# Altium integrated library Linear Technology Power Management Switching Regulator LT1074-LT8705.IntLib: 2252 symbols (part 131 of 148)
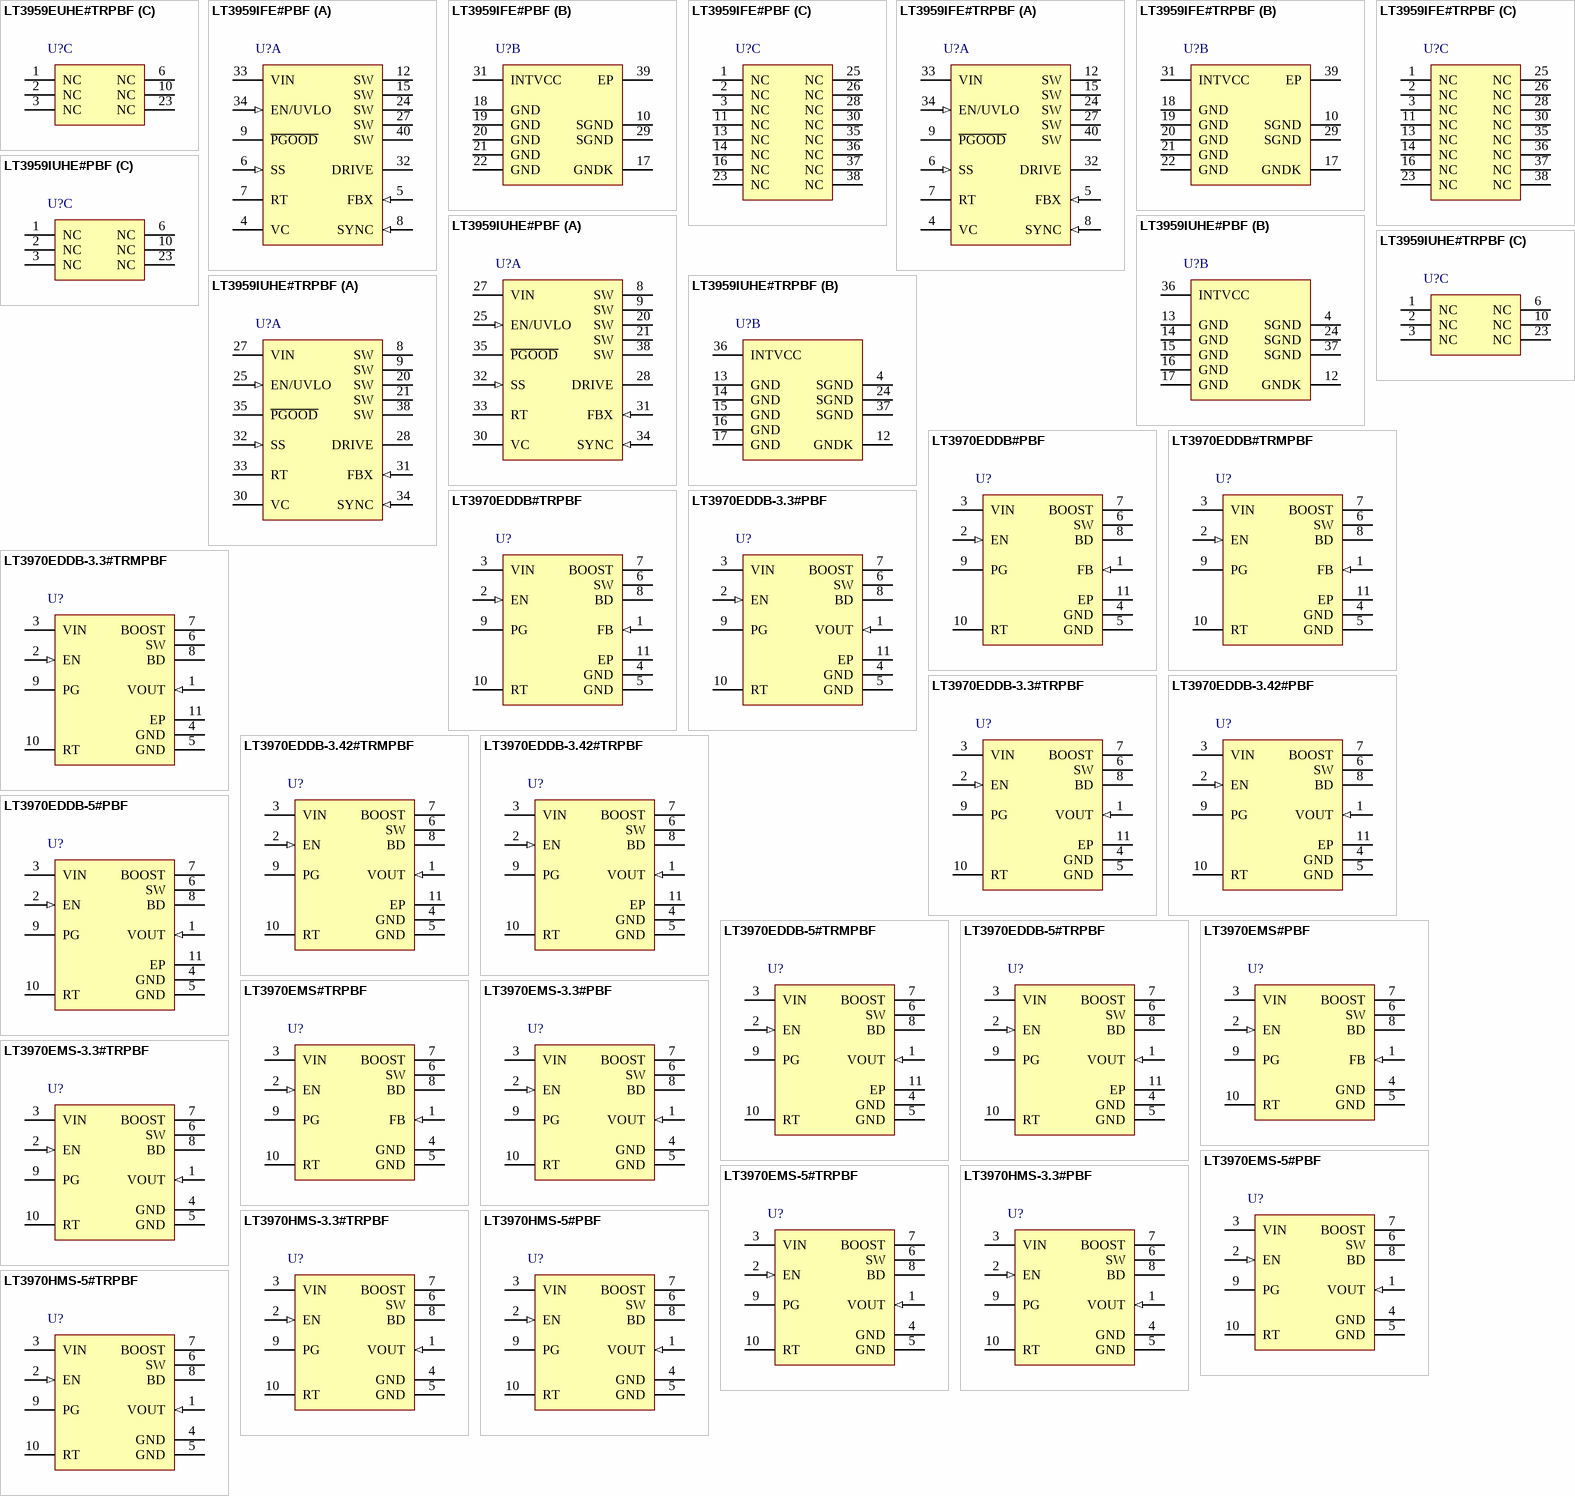
[diagram p201: symbols LT3959EUHE#TRPBF to LT3970HMS-5#TRPBF]

## LT3970HMS-3.3#TRPBF
designator U?
350 mA Step-Down Regulator with 2.5 uA Quiescent Current and Integrated Diodes, 10-pin SOP (MS-10), -40 to 150 degC, Pb-Free, Tape and Reel; Manufacturer: Linear Technology; PartNumber: LT3970HMS-3.3#TRPBF; Frequency Adjust Range: 200kHz - 2.2MHz; Number of Outputs: 1; DatasheetVersion: Rev. B; PackageVersion: Rev. E, 06/2010; PackageReference: MS-10; PackageDescription: 10-Pin Plastic MSOP, Body 3 x 3 mm, Pitch 0.5 mm; Supplier 1: Digi-Key; Supplier Part Number 1: LT3970HMS-3.3#TRPBF-ND; Packing: Tape and Reel; RoHS: TRUE; Mounting Technology: Surface Mount; ComponentLink1Description: Manufacturer URL; ComponentLink1URL: http://www.linear.com/; ComponentLink2Description: Datasheet; ComponentLink2URL: http://cds.linear.com/docs/en/datasheet/3970fb.pdf; ComponentLink3Description: Package Specification; ComponentLink3URL: http://cds.linear.com/docs/en/packaging/05081661_F_MS.pdf
footprint LT-MS-10_N (SOP, 10-Leads, Body 3.1x3.1mm, Pitch 0.5mm, IPC Medium Density)
footprint LT-MS-10_L (SOP, 10-Leads, Body 3.1x3.1mm, Pitch 0.5mm, IPC High Density)
footprint LT-MS-10_M (SOP, 10-Leads, Body 3.1x3.1mm, Pitch 0.5mm, IPC Low Density)
pins: 1 VOUT (in) "The LT3970-3.3, LT3970-3.42 and LT3970-5 regulate the VOUT Pin to 3.3V, 3.42V and 5V respectively. This pin connects to the internal feedback divider that programs the fixed output voltage.", 2 EN (in) "The part is in shutdown when this pin is low and active when this pin is high. The hysteretic threshold voltage is 1V going up and 0.97V going down. Tie to VIN if shutdown feature is not used. The EN threshold is accurate (See Datasheet)", 3 VIN (power) "The VIN pin supplies current to the LT3970’s internal circuitry and to the internal power switch. This pin must be locally bypassed.", 4 GND (power) "Ground. Must be soldered to PCB.", 5 GND (power) "Ground. Must be soldered to PCB.", 6 SW (power) "The SW pin is the output of an internal power switch. Connect this pin to the inductor.", 7 BOOST "This pin is used to provide a drive voltage, higher than the input voltage, to the internal bipolar NPN power switch.", 8 BD (power) "This pin connects to the anode of the boost diode. This pin also supplies current to the LT3970’s internal regulator when BD is above 3.2V.", 9 PG (oc) "The PG pin is the open-drain output of an internal comparator. PG remains low until the FB pin is within 10% of the final regulation voltage. PG is valid when VIN is above 4.2V and EN is high.", 10 RT "A resistor is tied between RT and ground to set the switching frequency."

## LT3970HMS-5#PBF
designator U?
350 mA Step-Down Regulator with 2.5 uA Quiescent Current and Integrated Diodes, 10-pin SOP (MS-10), -40 to 150 degC, Pb-Free; Manufacturer: Linear Technology; PartNumber: LT3970HMS-5#PBF; Frequency Adjust Range: 200kHz - 2.2MHz; Number of Outputs: 1; DatasheetVersion: Rev. B; PackageVersion: Rev. E, 06/2010; PackageReference: MS-10; PackageDescription: 10-Pin Plastic MSOP, Body 3 x 3 mm, Pitch 0.5 mm; Supplier 1: Digi-Key; Supplier Part Number 1: LT3970HMS-5#PBF-ND; RoHS: TRUE; Mounting Technology: Surface Mount; ComponentLink1Description: Manufacturer URL; ComponentLink1URL: http://www.linear.com/; ComponentLink2Description: Datasheet; ComponentLink2URL: http://cds.linear.com/docs/en/datasheet/3970fb.pdf; ComponentLink3Description: Package Specification; ComponentLink3URL: http://cds.linear.com/docs/en/packaging/05081661_F_MS.pdf
footprint LT-MS-10_N (SOP, 10-Leads, Body 3.1x3.1mm, Pitch 0.5mm, IPC Medium Density)
footprint LT-MS-10_L (SOP, 10-Leads, Body 3.1x3.1mm, Pitch 0.5mm, IPC High Density)
footprint LT-MS-10_M (SOP, 10-Leads, Body 3.1x3.1mm, Pitch 0.5mm, IPC Low Density)
pins: 1 VOUT (in) "The LT3970-3.3, LT3970-3.42 and LT3970-5 regulate the VOUT Pin to 3.3V, 3.42V and 5V respectively. This pin connects to the internal feedback divider that programs the fixed output voltage.", 2 EN (in) "The part is in shutdown when this pin is low and active when this pin is high. The hysteretic threshold voltage is 1V going up and 0.97V going down. Tie to VIN if shutdown feature is not used. The EN threshold is accurate (See Datasheet)", 3 VIN (power) "The VIN pin supplies current to the LT3970’s internal circuitry and to the internal power switch. This pin must be locally bypassed.", 4 GND (power) "Ground. Must be soldered to PCB.", 5 GND (power) "Ground. Must be soldered to PCB.", 6 SW (power) "The SW pin is the output of an internal power switch. Connect this pin to the inductor.", 7 BOOST "This pin is used to provide a drive voltage, higher than the input voltage, to the internal bipolar NPN power switch.", 8 BD (power) "This pin connects to the anode of the boost diode. This pin also supplies current to the LT3970’s internal regulator when BD is above 3.2V.", 9 PG (oc) "The PG pin is the open-drain output of an internal comparator. PG remains low until the FB pin is within 10% of the final regulation voltage. PG is valid when VIN is above 4.2V and EN is high.", 10 RT "A resistor is tied between RT and ground to set the switching frequency."

## LT3970HMS-5#TRPBF
designator U?
350 mA Step-Down Regulator with 2.5 uA Quiescent Current and Integrated Diodes, 10-pin SOP (MS-10), -40 to 150 degC, Pb-Free, Tape and Reel; Manufacturer: Linear Technology; PartNumber: LT3970HMS-5#TRPBF; Frequency Adjust Range: 200kHz - 2.2MHz; Number of Outputs: 1; DatasheetVersion: Rev. B; PackageVersion: Rev. E, 06/2010; PackageReference: MS-10; PackageDescription: 10-Pin Plastic MSOP, Body 3 x 3 mm, Pitch 0.5 mm; Supplier 1: Digi-Key; Supplier Part Number 1: LT3970HMS-5#TRPBF-ND; Packing: Tape and Reel; RoHS: TRUE; Mounting Technology: Surface Mount; ComponentLink1Description: Manufacturer URL; ComponentLink1URL: http://www.linear.com/; ComponentLink2Description: Datasheet; ComponentLink2URL: http://cds.linear.com/docs/en/datasheet/3970fb.pdf; ComponentLink3Description: Package Specification; ComponentLink3URL: http://cds.linear.com/docs/en/packaging/05081661_F_MS.pdf
footprint LT-MS-10_N (SOP, 10-Leads, Body 3.1x3.1mm, Pitch 0.5mm, IPC Medium Density)
footprint LT-MS-10_L (SOP, 10-Leads, Body 3.1x3.1mm, Pitch 0.5mm, IPC High Density)
footprint LT-MS-10_M (SOP, 10-Leads, Body 3.1x3.1mm, Pitch 0.5mm, IPC Low Density)
pins: 1 VOUT (in) "The LT3970-3.3, LT3970-3.42 and LT3970-5 regulate the VOUT Pin to 3.3V, 3.42V and 5V respectively. This pin connects to the internal feedback divider that programs the fixed output voltage.", 2 EN (in) "The part is in shutdown when this pin is low and active when this pin is high. The hysteretic threshold voltage is 1V going up and 0.97V going down. Tie to VIN if shutdown feature is not used. The EN threshold is accurate (See Datasheet)", 3 VIN (power) "The VIN pin supplies current to the LT3970’s internal circuitry and to the internal power switch. This pin must be locally bypassed.", 4 GND (power) "Ground. Must be soldered to PCB.", 5 GND (power) "Ground. Must be soldered to PCB.", 6 SW (power) "The SW pin is the output of an internal power switch. Connect this pin to the inductor.", 7 BOOST "This pin is used to provide a drive voltage, higher than the input voltage, to the internal bipolar NPN power switch.", 8 BD (power) "This pin connects to the anode of the boost diode. This pin also supplies current to the LT3970’s internal regulator when BD is above 3.2V.", 9 PG (oc) "The PG pin is the open-drain output of an internal comparator. PG remains low until the FB pin is within 10% of the final regulation voltage. PG is valid when VIN is above 4.2V and EN is high.", 10 RT "A resistor is tied between RT and ground to set the switching frequency."

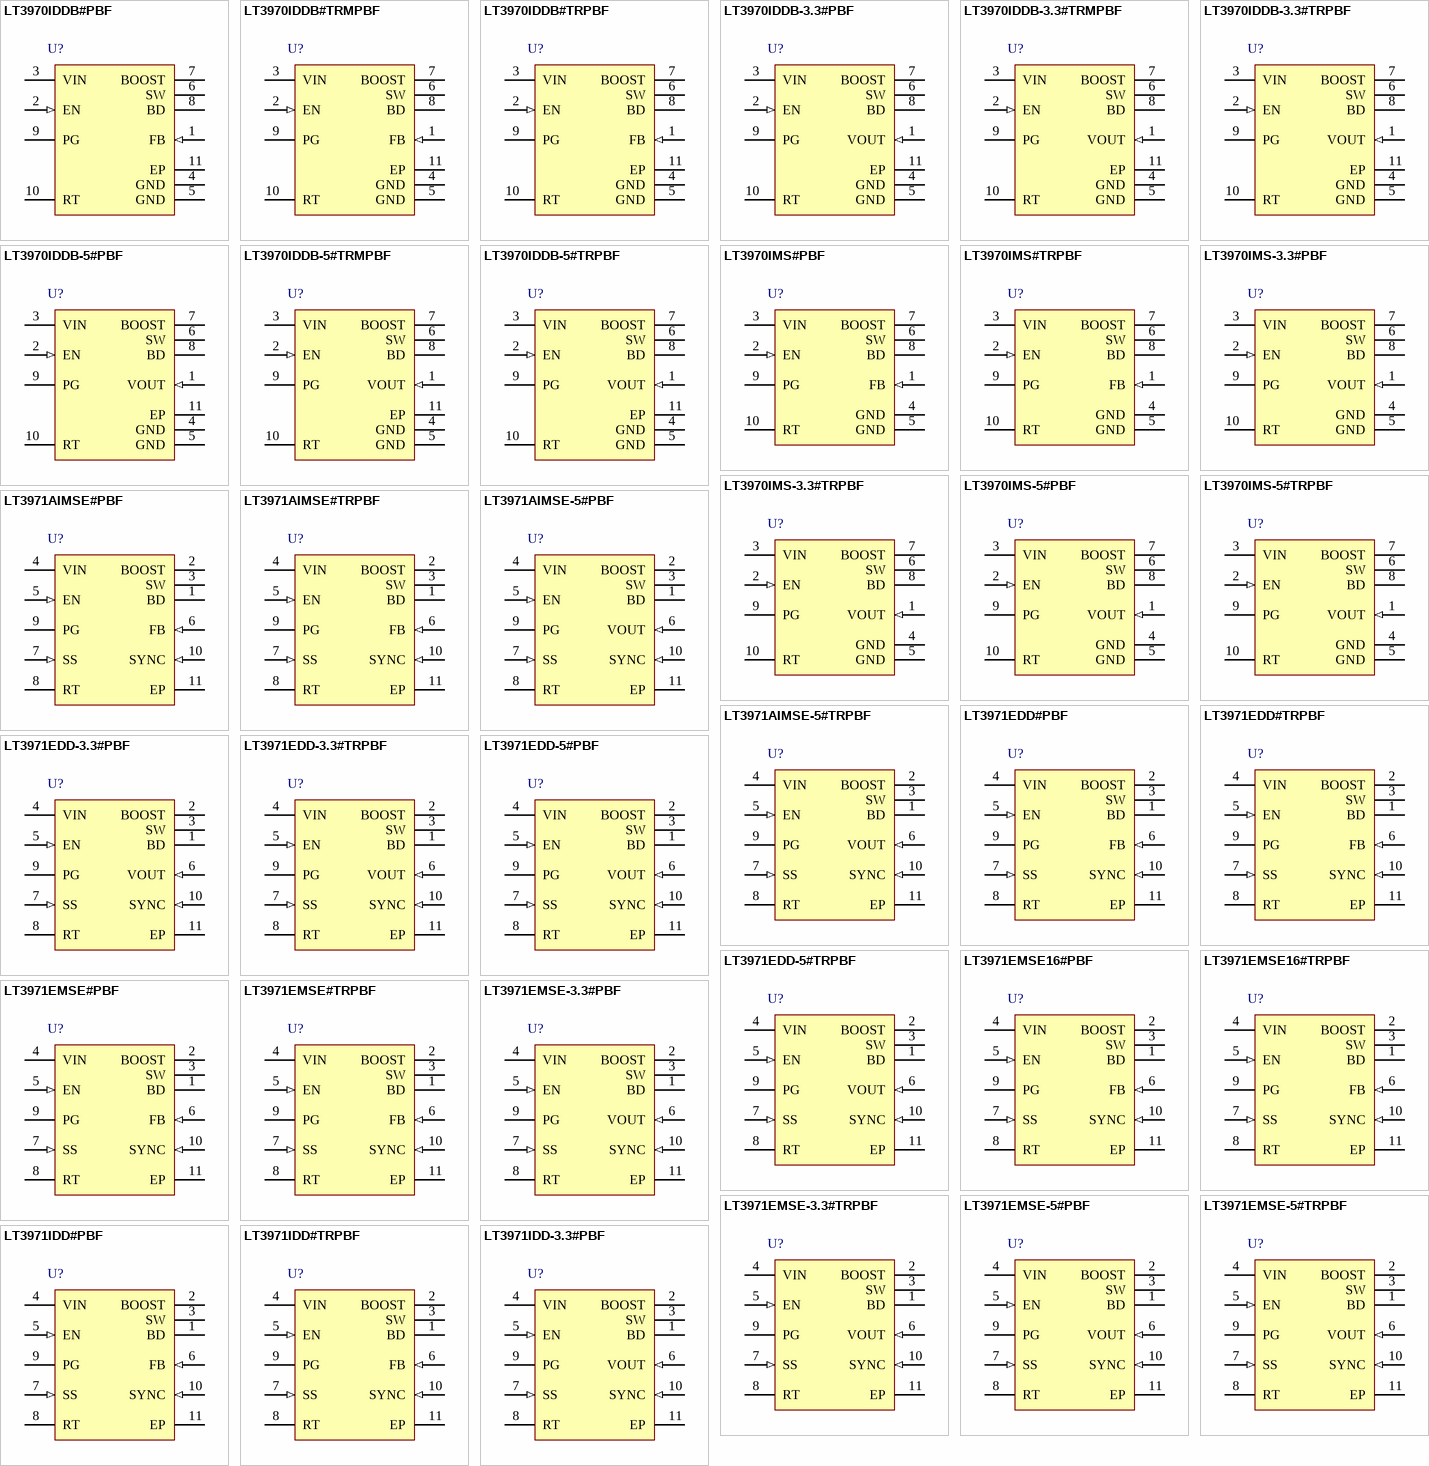
[diagram p63: symbols LT3970IDDB#PBF to LT3971IDD-3.3#PBF]

## LT3970IDDB#PBF
designator U?
350 mA Step-Down Regulator with 2.5 uA Quiescent Current and Integrated Diodes, 10-pin SON (DDB-10), -40 to 125 degC, Pb-Free; Manufacturer: Linear Technology; PartNumber: LT3970IDDB#PBF; Frequency Adjust Range: 200kHz - 2.2MHz; Number of Outputs: 1; DatasheetVersion: Rev. B; PackageVersion: Rev. Ø, 06/2010; PackageReference: DDB10; PackageDescription: 10-Pin Plastic DFN, Body 3 x 2 mm, Pitch 0.5 mm; Supplier 1: Newark; Supplier Part Number 1: 78T4066; RoHS: TRUE; Mounting Technology: Surface Mount; Code_JEDEC: MO-229; ComponentLink1Description: Manufacturer URL; ComponentLink1URL: http://www.linear.com/; ComponentLink2Description: Datasheet; ComponentLink2URL: http://cds.linear.com/docs/en/datasheet/3970fb.pdf; ComponentLink3Description: Package Specification; ComponentLink3URL: http://cds.linear.com/docs/en/packaging/DFN_10_05-08-1722.pdf
footprint LT-DDB-10_V (SON, 10-Leads, Body 3x2mm, Pitch 0.5mm, Thermal Pad 2.39x0.64mm)
pins: 1 FB (in) "The LT3970 Regulates the FB Pin to 1.21V. Connect the feedback resistor divider tap to this pin.", 2 EN (in) "The part is in shutdown when this pin is low and active when this pin is high. The hysteretic threshold voltage is 1V going up and 0.97V going down. Tie to VIN if shutdown feature is not used. The EN threshold is accurate (See Datasheet)", 3 VIN (power) "The VIN pin supplies current to the LT3970’s internal circuitry and to the internal power switch. This pin must be locally bypassed.", 4 GND (power) "Ground. Must be soldered to PCB.", 5 GND (power) "Ground. Must be soldered to PCB.", 6 SW (power) "The SW pin is the output of an internal power switch. Connect this pin to the inductor", 7 BOOST "This pin is used to provide a drive voltage, higher than the input voltage, to the internal bipolar NPN power switch.", 8 BD (power) "This pin connects to the anode of the boost diode. This pin also supplies current to the LT3970’s internal regulator when BD is above 3.2V.", 9 PG (oc) "The PG pin is the open-drain output of an internal comparator. PG remains low until the FB pin is within 10% of the final regulation voltage. PG is valid when VIN is above 4.2V and EN is high.", 10 RT "A resistor is tied between RT and ground to set the switching frequency.", 11 EP (power) "Ground. Must be soldered to PCB."

## LT3970IDDB#TRMPBF
designator U?
350 mA Step-Down Regulator with 2.5 uA Quiescent Current and Integrated Diodes, 10-pin SON (DDB-10), -40 to 125 degC, Pb-Free, Mini Tape and Reel; Manufacturer: Linear Technology; PartNumber: LT3970IDDB#TRMPBF; Frequency Adjust Range: 200kHz - 2.2MHz; Number of Outputs: 1; DatasheetVersion: Rev. B; PackageVersion: Rev. Ø, 06/2010; PackageReference: DDB10; PackageDescription: 10-Pin Plastic DFN, Body 3 x 2 mm, Pitch 0.5 mm; Supplier 1: Digi-Key; Supplier Part Number 1: LT3970IDDB#TRMPBF-ND; Supplier 2: Newark; Supplier Part Number 2: 13T8573; Packing: Mini Tape and Reel; RoHS: TRUE; Mounting Technology: Surface Mount; Code_JEDEC: MO-229; ComponentLink1Description: Manufacturer URL; ComponentLink1URL: http://www.linear.com/; ComponentLink2Description: Datasheet; ComponentLink2URL: http://cds.linear.com/docs/en/datasheet/3970fb.pdf; ComponentLink3Description: Package Specification; ComponentLink3URL: http://cds.linear.com/docs/en/packaging/DFN_10_05-08-1722.pdf
footprint LT-DDB-10_V (SON, 10-Leads, Body 3x2mm, Pitch 0.5mm, Thermal Pad 2.39x0.64mm)
pins: 1 FB (in) "The LT3970 Regulates the FB Pin to 1.21V. Connect the feedback resistor divider tap to this pin.", 2 EN (in) "The part is in shutdown when this pin is low and active when this pin is high. The hysteretic threshold voltage is 1V going up and 0.97V going down. Tie to VIN if shutdown feature is not used. The EN threshold is accurate (See Datasheet)", 3 VIN (power) "The VIN pin supplies current to the LT3970’s internal circuitry and to the internal power switch. This pin must be locally bypassed.", 4 GND (power) "Ground. Must be soldered to PCB.", 5 GND (power) "Ground. Must be soldered to PCB.", 6 SW (power) "The SW pin is the output of an internal power switch. Connect this pin to the inductor", 7 BOOST "This pin is used to provide a drive voltage, higher than the input voltage, to the internal bipolar NPN power switch.", 8 BD (power) "This pin connects to the anode of the boost diode. This pin also supplies current to the LT3970’s internal regulator when BD is above 3.2V.", 9 PG (oc) "The PG pin is the open-drain output of an internal comparator. PG remains low until the FB pin is within 10% of the final regulation voltage. PG is valid when VIN is above 4.2V and EN is high.", 10 RT "A resistor is tied between RT and ground to set the switching frequency.", 11 EP (power) "Ground. Must be soldered to PCB."

## LT3970IDDB#TRPBF
designator U?
350 mA Step-Down Regulator with 2.5 uA Quiescent Current and Integrated Diodes, 10-pin SON (DDB-10), -40 to 125 degC, Pb-Free, Tape and Reel; Manufacturer: Linear Technology; PartNumber: LT3970IDDB#TRPBF; Frequency Adjust Range: 200kHz - 2.2MHz; Number of Outputs: 1; DatasheetVersion: Rev. B; PackageVersion: Rev. Ø, 06/2010; PackageReference: DDB10; PackageDescription: 10-Pin Plastic DFN, Body 3 x 2 mm, Pitch 0.5 mm; Supplier 1: Digi-Key; Supplier Part Number 1: LT3970IDDB#TRPBF-ND; Packing: Tape and Reel; RoHS: TRUE; Mounting Technology: Surface Mount; Code_JEDEC: MO-229; ComponentLink1Description: Manufacturer URL; ComponentLink1URL: http://www.linear.com/; ComponentLink2Description: Datasheet; ComponentLink2URL: http://cds.linear.com/docs/en/datasheet/3970fb.pdf; ComponentLink3Description: Package Specification; ComponentLink3URL: http://cds.linear.com/docs/en/packaging/DFN_10_05-08-1722.pdf
footprint LT-DDB-10_V (SON, 10-Leads, Body 3x2mm, Pitch 0.5mm, Thermal Pad 2.39x0.64mm)
pins: 1 FB (in) "The LT3970 Regulates the FB Pin to 1.21V. Connect the feedback resistor divider tap to this pin.", 2 EN (in) "The part is in shutdown when this pin is low and active when this pin is high. The hysteretic threshold voltage is 1V going up and 0.97V going down. Tie to VIN if shutdown feature is not used. The EN threshold is accurate (See Datasheet)", 3 VIN (power) "The VIN pin supplies current to the LT3970’s internal circuitry and to the internal power switch. This pin must be locally bypassed.", 4 GND (power) "Ground. Must be soldered to PCB.", 5 GND (power) "Ground. Must be soldered to PCB.", 6 SW (power) "The SW pin is the output of an internal power switch. Connect this pin to the inductor", 7 BOOST "This pin is used to provide a drive voltage, higher than the input voltage, to the internal bipolar NPN power switch.", 8 BD (power) "This pin connects to the anode of the boost diode. This pin also supplies current to the LT3970’s internal regulator when BD is above 3.2V.", 9 PG (oc) "The PG pin is the open-drain output of an internal comparator. PG remains low until the FB pin is within 10% of the final regulation voltage. PG is valid when VIN is above 4.2V and EN is high.", 10 RT "A resistor is tied between RT and ground to set the switching frequency.", 11 EP (power) "Ground. Must be soldered to PCB."

## LT3970IDDB-3.3#PBF
designator U?
350 mA Step-Down Regulator with 2.5 uA Quiescent Current and Integrated Diodes, 10-pin SON (DDB-10), -40 to 125 degC, Pb-Free; Manufacturer: Linear Technology; PartNumber: LT3970IDDB-3.3#PBF; Frequency Adjust Range: 200kHz - 2.2MHz; Number of Outputs: 1; DatasheetVersion: Rev. B; PackageVersion: Rev. Ø, 06/2010; PackageReference: DDB10; PackageDescription: 10-Pin Plastic DFN, Body 3 x 2 mm, Pitch 0.5 mm; Supplier 1: Newark; Supplier Part Number 1: 78T4064; RoHS: TRUE; Mounting Technology: Surface Mount; Code_JEDEC: MO-229; ComponentLink1Description: Manufacturer URL; ComponentLink1URL: http://www.linear.com/; ComponentLink2Description: Datasheet; ComponentLink2URL: http://cds.linear.com/docs/en/datasheet/3970fb.pdf; ComponentLink3Description: Package Specification; ComponentLink3URL: http://cds.linear.com/docs/en/packaging/DFN_10_05-08-1722.pdf
footprint LT-DDB-10_V (SON, 10-Leads, Body 3x2mm, Pitch 0.5mm, Thermal Pad 2.39x0.64mm)
pins: 1 VOUT (in) "The LT3970-3.3, LT3970-3.42 and LT3970-5 regulate the VOUT Pin to 3.3V, 3.42V and 5V respectively. This pin connects to the internal feedback divider that programs the fixed output voltage.", 2 EN (in) "The part is in shutdown when this pin is low and active when this pin is high. The hysteretic threshold voltage is 1V going up and 0.97V going down. Tie to VIN if shutdown feature is not used. The EN threshold is accurate (See Datasheet)", 3 VIN (power) "The VIN pin supplies current to the LT3970’s internal circuitry and to the internal power switch. This pin must be locally bypassed.", 4 GND (power) "Ground. Must be soldered to PCB.", 5 GND (power) "Ground. Must be soldered to PCB.", 6 SW (power) "The SW pin is the output of an internal power switch. Connect this pin to the inductor.", 7 BOOST "This pin is used to provide a drive voltage, higher than the input voltage, to the internal bipolar NPN power switch.", 8 BD (power) "This pin connects to the anode of the boost diode. This pin also supplies current to the LT3970’s internal regulator when BD is above 3.2V.", 9 PG (oc) "The PG pin is the open-drain output of an internal comparator. PG remains low until the FB pin is within 10% of the final regulation voltage. PG is valid when VIN is above 4.2V and EN is high.", 10 RT "A resistor is tied between RT and ground to set the switching frequency.", 11 EP (power) "Ground. Must be soldered to PCB."

## LT3970IDDB-3.3#TRMPBF
designator U?
350 mA Step-Down Regulator with 2.5 uA Quiescent Current and Integrated Diodes, 10-pin SON (DDB-10), -40 to 125 degC, Pb-Free, Mini Tape and Reel; Manufacturer: Linear Technology; PartNumber: LT3970IDDB-3.3#TRMPBF; Frequency Adjust Range: 200kHz - 2.2MHz; Number of Outputs: 1; DatasheetVersion: Rev. B; PackageVersion: Rev. Ø, 06/2010; PackageReference: DDB10; PackageDescription: 10-Pin Plastic DFN, Body 3 x 2 mm, Pitch 0.5 mm; Supplier 1: Digi-Key; Supplier Part Number 1: LT3970IDDB-3.3#TRMPBF-ND; Packing: Mini Tape and Reel; RoHS: TRUE; Mounting Technology: Surface Mount; Code_JEDEC: MO-229; ComponentLink1Description: Manufacturer URL; ComponentLink1URL: http://www.linear.com/; ComponentLink2Description: Datasheet; ComponentLink2URL: http://cds.linear.com/docs/en/datasheet/3970fb.pdf; ComponentLink3Description: Package Specification; ComponentLink3URL: http://cds.linear.com/docs/en/packaging/DFN_10_05-08-1722.pdf
footprint LT-DDB-10_V (SON, 10-Leads, Body 3x2mm, Pitch 0.5mm, Thermal Pad 2.39x0.64mm)
pins: 1 VOUT (in) "The LT3970-3.3, LT3970-3.42 and LT3970-5 regulate the VOUT Pin to 3.3V, 3.42V and 5V respectively. This pin connects to the internal feedback divider that programs the fixed output voltage.", 2 EN (in) "The part is in shutdown when this pin is low and active when this pin is high. The hysteretic threshold voltage is 1V going up and 0.97V going down. Tie to VIN if shutdown feature is not used. The EN threshold is accurate (See Datasheet)", 3 VIN (power) "The VIN pin supplies current to the LT3970’s internal circuitry and to the internal power switch. This pin must be locally bypassed.", 4 GND (power) "Ground. Must be soldered to PCB.", 5 GND (power) "Ground. Must be soldered to PCB.", 6 SW (power) "The SW pin is the output of an internal power switch. Connect this pin to the inductor.", 7 BOOST "This pin is used to provide a drive voltage, higher than the input voltage, to the internal bipolar NPN power switch.", 8 BD (power) "This pin connects to the anode of the boost diode. This pin also supplies current to the LT3970’s internal regulator when BD is above 3.2V.", 9 PG (oc) "The PG pin is the open-drain output of an internal comparator. PG remains low until the FB pin is within 10% of the final regulation voltage. PG is valid when VIN is above 4.2V and EN is high.", 10 RT "A resistor is tied between RT and ground to set the switching frequency.", 11 EP (power) "Ground. Must be soldered to PCB."

## LT3970IDDB-3.3#TRPBF
designator U?
350 mA Step-Down Regulator with 2.5 uA Quiescent Current and Integrated Diodes, 10-pin SON (DDB-10), -40 to 125 degC, Pb-Free, Tape and Reel; Manufacturer: Linear Technology; PartNumber: LT3970IDDB-3.3#TRPBF; Frequency Adjust Range: 200kHz - 2.2MHz; Number of Outputs: 1; DatasheetVersion: Rev. B; PackageVersion: Rev. Ø, 06/2010; PackageReference: DDB10; PackageDescription: 10-Pin Plastic DFN, Body 3 x 2 mm, Pitch 0.5 mm; Supplier 1: Digi-Key; Supplier Part Number 1: LT3970IDDB-3.3#TRPBF-ND; Packing: Tape and Reel; RoHS: TRUE; Mounting Technology: Surface Mount; Code_JEDEC: MO-229; ComponentLink1Description: Manufacturer URL; ComponentLink1URL: http://www.linear.com/; ComponentLink2Description: Datasheet; ComponentLink2URL: http://cds.linear.com/docs/en/datasheet/3970fb.pdf; ComponentLink3Description: Package Specification; ComponentLink3URL: http://cds.linear.com/docs/en/packaging/DFN_10_05-08-1722.pdf
footprint LT-DDB-10_V (SON, 10-Leads, Body 3x2mm, Pitch 0.5mm, Thermal Pad 2.39x0.64mm)
pins: 1 VOUT (in) "The LT3970-3.3, LT3970-3.42 and LT3970-5 regulate the VOUT Pin to 3.3V, 3.42V and 5V respectively. This pin connects to the internal feedback divider that programs the fixed output voltage.", 2 EN (in) "The part is in shutdown when this pin is low and active when this pin is high. The hysteretic threshold voltage is 1V going up and 0.97V going down. Tie to VIN if shutdown feature is not used. The EN threshold is accurate (See Datasheet)", 3 VIN (power) "The VIN pin supplies current to the LT3970’s internal circuitry and to the internal power switch. This pin must be locally bypassed.", 4 GND (power) "Ground. Must be soldered to PCB.", 5 GND (power) "Ground. Must be soldered to PCB.", 6 SW (power) "The SW pin is the output of an internal power switch. Connect this pin to the inductor.", 7 BOOST "This pin is used to provide a drive voltage, higher than the input voltage, to the internal bipolar NPN power switch.", 8 BD (power) "This pin connects to the anode of the boost diode. This pin also supplies current to the LT3970’s internal regulator when BD is above 3.2V.", 9 PG (oc) "The PG pin is the open-drain output of an internal comparator. PG remains low until the FB pin is within 10% of the final regulation voltage. PG is valid when VIN is above 4.2V and EN is high.", 10 RT "A resistor is tied between RT and ground to set the switching frequency.", 11 EP (power) "Ground. Must be soldered to PCB."

## LT3970IDDB-5#PBF
designator U?
350 mA Step-Down Regulator with 2.5 uA Quiescent Current and Integrated Diodes, 10-pin SON (DDB-10), -40 to 125 degC, Pb-Free; Manufacturer: Linear Technology; PartNumber: LT3970IDDB-5#PBF; Frequency Adjust Range: 200kHz - 2.2MHz; Number of Outputs: 1; DatasheetVersion: Rev. B; PackageVersion: Rev. Ø, 06/2010; PackageReference: DDB10; PackageDescription: 10-Pin Plastic DFN, Body 3 x 2 mm, Pitch 0.5 mm; Supplier 1: Newark; Supplier Part Number 1: 78T4065; RoHS: TRUE; Mounting Technology: Surface Mount; Code_JEDEC: MO-229; ComponentLink1Description: Manufacturer URL; ComponentLink1URL: http://www.linear.com/; ComponentLink2Description: Datasheet; ComponentLink2URL: http://cds.linear.com/docs/en/datasheet/3970fb.pdf; ComponentLink3Description: Package Specification; ComponentLink3URL: http://cds.linear.com/docs/en/packaging/DFN_10_05-08-1722.pdf
footprint LT-DDB-10_V (SON, 10-Leads, Body 3x2mm, Pitch 0.5mm, Thermal Pad 2.39x0.64mm)
pins: 1 VOUT (in) "The LT3970-3.3, LT3970-3.42 and LT3970-5 regulate the VOUT Pin to 3.3V, 3.42V and 5V respectively. This pin connects to the internal feedback divider that programs the fixed output voltage.", 2 EN (in) "The part is in shutdown when this pin is low and active when this pin is high. The hysteretic threshold voltage is 1V going up and 0.97V going down. Tie to VIN if shutdown feature is not used. The EN threshold is accurate (See Datasheet)", 3 VIN (power) "The VIN pin supplies current to the LT3970’s internal circuitry and to the internal power switch. This pin must be locally bypassed.", 4 GND (power) "Ground. Must be soldered to PCB.", 5 GND (power) "Ground. Must be soldered to PCB.", 6 SW (power) "The SW pin is the output of an internal power switch. Connect this pin to the inductor.", 7 BOOST "This pin is used to provide a drive voltage, higher than the input voltage, to the internal bipolar NPN power switch.", 8 BD (power) "This pin connects to the anode of the boost diode. This pin also supplies current to the LT3970’s internal regulator when BD is above 3.2V.", 9 PG (oc) "The PG pin is the open-drain output of an internal comparator. PG remains low until the FB pin is within 10% of the final regulation voltage. PG is valid when VIN is above 4.2V and EN is high.", 10 RT "A resistor is tied between RT and ground to set the switching frequency.", 11 EP (power) "Ground. Must be soldered to PCB."

## LT3970IDDB-5#TRMPBF
designator U?
350 mA Step-Down Regulator with 2.5 uA Quiescent Current and Integrated Diodes, 10-pin SON (DDB-10), -40 to 125 degC, Pb-Free, Mini Tape and Reel; Manufacturer: Linear Technology; PartNumber: LT3970IDDB-5#TRMPBF; Frequency Adjust Range: 200kHz - 2.2MHz; Number of Outputs: 1; DatasheetVersion: Rev. B; PackageVersion: Rev. Ø, 06/2010; PackageReference: DDB10; PackageDescription: 10-Pin Plastic DFN, Body 3 x 2 mm, Pitch 0.5 mm; Supplier 1: Digi-Key; Supplier Part Number 1: LT3970IDDB-5#TRMPBF-ND; Packing: Mini Tape and Reel; RoHS: TRUE; Mounting Technology: Surface Mount; Code_JEDEC: MO-229; ComponentLink1Description: Manufacturer URL; ComponentLink1URL: http://www.linear.com/; ComponentLink2Description: Datasheet; ComponentLink2URL: http://cds.linear.com/docs/en/datasheet/3970fb.pdf; ComponentLink3Description: Package Specification; ComponentLink3URL: http://cds.linear.com/docs/en/packaging/DFN_10_05-08-1722.pdf
footprint LT-DDB-10_V (SON, 10-Leads, Body 3x2mm, Pitch 0.5mm, Thermal Pad 2.39x0.64mm)
pins: 1 VOUT (in) "The LT3970-3.3, LT3970-3.42 and LT3970-5 regulate the VOUT Pin to 3.3V, 3.42V and 5V respectively. This pin connects to the internal feedback divider that programs the fixed output voltage.", 2 EN (in) "The part is in shutdown when this pin is low and active when this pin is high. The hysteretic threshold voltage is 1V going up and 0.97V going down. Tie to VIN if shutdown feature is not used. The EN threshold is accurate (See Datasheet)", 3 VIN (power) "The VIN pin supplies current to the LT3970’s internal circuitry and to the internal power switch. This pin must be locally bypassed.", 4 GND (power) "Ground. Must be soldered to PCB.", 5 GND (power) "Ground. Must be soldered to PCB.", 6 SW (power) "The SW pin is the output of an internal power switch. Connect this pin to the inductor.", 7 BOOST "This pin is used to provide a drive voltage, higher than the input voltage, to the internal bipolar NPN power switch.", 8 BD (power) "This pin connects to the anode of the boost diode. This pin also supplies current to the LT3970’s internal regulator when BD is above 3.2V.", 9 PG (oc) "The PG pin is the open-drain output of an internal comparator. PG remains low until the FB pin is within 10% of the final regulation voltage. PG is valid when VIN is above 4.2V and EN is high.", 10 RT "A resistor is tied between RT and ground to set the switching frequency.", 11 EP (power) "Ground. Must be soldered to PCB."

## LT3970IDDB-5#TRPBF
designator U?
350 mA Step-Down Regulator with 2.5 uA Quiescent Current and Integrated Diodes, 10-pin SON (DDB-10), -40 to 125 degC, Pb-Free, Tape and Reel; Manufacturer: Linear Technology; PartNumber: LT3970IDDB-5#TRPBF; Frequency Adjust Range: 200kHz - 2.2MHz; Number of Outputs: 1; DatasheetVersion: Rev. B; PackageVersion: Rev. Ø, 06/2010; PackageReference: DDB10; PackageDescription: 10-Pin Plastic DFN, Body 3 x 2 mm, Pitch 0.5 mm; Supplier 1: Digi-Key; Supplier Part Number 1: LT3970IDDB-5#TRPBF-ND; Packing: Tape and Reel; RoHS: TRUE; Mounting Technology: Surface Mount; Code_JEDEC: MO-229; ComponentLink1Description: Manufacturer URL; ComponentLink1URL: http://www.linear.com/; ComponentLink2Description: Datasheet; ComponentLink2URL: http://cds.linear.com/docs/en/datasheet/3970fb.pdf; ComponentLink3Description: Package Specification; ComponentLink3URL: http://cds.linear.com/docs/en/packaging/DFN_10_05-08-1722.pdf
footprint LT-DDB-10_V (SON, 10-Leads, Body 3x2mm, Pitch 0.5mm, Thermal Pad 2.39x0.64mm)
pins: 1 VOUT (in) "The LT3970-3.3, LT3970-3.42 and LT3970-5 regulate the VOUT Pin to 3.3V, 3.42V and 5V respectively. This pin connects to the internal feedback divider that programs the fixed output voltage.", 2 EN (in) "The part is in shutdown when this pin is low and active when this pin is high. The hysteretic threshold voltage is 1V going up and 0.97V going down. Tie to VIN if shutdown feature is not used. The EN threshold is accurate (See Datasheet)", 3 VIN (power) "The VIN pin supplies current to the LT3970’s internal circuitry and to the internal power switch. This pin must be locally bypassed.", 4 GND (power) "Ground. Must be soldered to PCB.", 5 GND (power) "Ground. Must be soldered to PCB.", 6 SW (power) "The SW pin is the output of an internal power switch. Connect this pin to the inductor.", 7 BOOST "This pin is used to provide a drive voltage, higher than the input voltage, to the internal bipolar NPN power switch.", 8 BD (power) "This pin connects to the anode of the boost diode. This pin also supplies current to the LT3970’s internal regulator when BD is above 3.2V.", 9 PG (oc) "The PG pin is the open-drain output of an internal comparator. PG remains low until the FB pin is within 10% of the final regulation voltage. PG is valid when VIN is above 4.2V and EN is high.", 10 RT "A resistor is tied between RT and ground to set the switching frequency.", 11 EP (power) "Ground. Must be soldered to PCB."

## LT3970IMS#PBF
designator U?
350 mA Step-Down Regulator with 2.5 uA Quiescent Current and Integrated Diodes, 10-pin SOP (MS-10), -40 to 125 degC, Pb-Free; Manufacturer: Linear Technology; PartNumber: LT3970IMS#PBF; Frequency Adjust Range: 200kHz - 2.2MHz; Number of Outputs: 1; DatasheetVersion: Rev. B; PackageVersion: Rev. E, 06/2010; PackageReference: MS-10; PackageDescription: 10-Pin Plastic MSOP, Body 3 x 3 mm, Pitch 0.5 mm; Supplier 1: Digi-Key; Supplier Part Number 1: LT3970IMS#PBF-ND; Supplier 2: Newark; Supplier Part Number 2: 13T8579; RoHS: TRUE; Mounting Technology: Surface Mount; ComponentLink1Description: Manufacturer URL; ComponentLink1URL: http://www.linear.com/; ComponentLink2Description: Datasheet; ComponentLink2URL: http://cds.linear.com/docs/en/datasheet/3970fb.pdf; ComponentLink3Description: Package Specification; ComponentLink3URL: http://cds.linear.com/docs/en/packaging/05081661_F_MS.pdf
footprint LT-MS-10_N (SOP, 10-Leads, Body 3.1x3.1mm, Pitch 0.5mm, IPC Medium Density)
footprint LT-MS-10_L (SOP, 10-Leads, Body 3.1x3.1mm, Pitch 0.5mm, IPC High Density)
footprint LT-MS-10_M (SOP, 10-Leads, Body 3.1x3.1mm, Pitch 0.5mm, IPC Low Density)
pins: 1 FB (in) "The LT3970 Regulates the FB Pin to 1.21V. Connect the feedback resistor divider tap to this pin.", 2 EN (in) "The part is in shutdown when this pin is low and active when this pin is high. The hysteretic threshold voltage is 1V going up and 0.97V going down. Tie to VIN if shutdown feature is not used. The EN threshold is accurate (See Datasheet)", 3 VIN (power) "The VIN pin supplies current to the LT3970’s internal circuitry and to the internal power switch. This pin must be locally bypassed.", 4 GND (power) "Ground. Must be soldered to PCB.", 5 GND (power) "Ground. Must be soldered to PCB.", 6 SW (power) "The SW pin is the output of an internal power switch. Connect this pin to the inductor", 7 BOOST "This pin is used to provide a drive voltage, higher than the input voltage, to the internal bipolar NPN power switch.", 8 BD (power) "This pin connects to the anode of the boost diode. This pin also supplies current to the LT3970’s internal regulator when BD is above 3.2V.", 9 PG (oc) "The PG pin is the open-drain output of an internal comparator. PG remains low until the FB pin is within 10% of the final regulation voltage. PG is valid when VIN is above 4.2V and EN is high.", 10 RT "A resistor is tied between RT and ground to set the switching frequency."

## LT3970IMS#TRPBF
designator U?
350 mA Step-Down Regulator with 2.5 uA Quiescent Current and Integrated Diodes, 10-pin SOP (MS-10), -40 to 125 degC, Pb-Free, Tape and Reel; Manufacturer: Linear Technology; PartNumber: LT3970IMS#TRPBF; Frequency Adjust Range: 200kHz - 2.2MHz; Number of Outputs: 1; DatasheetVersion: Rev. B; PackageVersion: Rev. E, 06/2010; PackageReference: MS-10; PackageDescription: 10-Pin Plastic MSOP, Body 3 x 3 mm, Pitch 0.5 mm; Supplier 1: Digi-Key; Supplier Part Number 1: LT3970IMS#TRPBF-ND; Supplier 2: Newark; Supplier Part Number 2: 13T8580; Packing: Tape and Reel; RoHS: TRUE; Mounting Technology: Surface Mount; ComponentLink1Description: Manufacturer URL; ComponentLink1URL: http://www.linear.com/; ComponentLink2Description: Datasheet; ComponentLink2URL: http://cds.linear.com/docs/en/datasheet/3970fb.pdf; ComponentLink3Description: Package Specification; ComponentLink3URL: http://cds.linear.com/docs/en/packaging/05081661_F_MS.pdf
footprint LT-MS-10_N (SOP, 10-Leads, Body 3.1x3.1mm, Pitch 0.5mm, IPC Medium Density)
footprint LT-MS-10_L (SOP, 10-Leads, Body 3.1x3.1mm, Pitch 0.5mm, IPC High Density)
footprint LT-MS-10_M (SOP, 10-Leads, Body 3.1x3.1mm, Pitch 0.5mm, IPC Low Density)
pins: 1 FB (in) "The LT3970 Regulates the FB Pin to 1.21V. Connect the feedback resistor divider tap to this pin.", 2 EN (in) "The part is in shutdown when this pin is low and active when this pin is high. The hysteretic threshold voltage is 1V going up and 0.97V going down. Tie to VIN if shutdown feature is not used. The EN threshold is accurate (See Datasheet)", 3 VIN (power) "The VIN pin supplies current to the LT3970’s internal circuitry and to the internal power switch. This pin must be locally bypassed.", 4 GND (power) "Ground. Must be soldered to PCB.", 5 GND (power) "Ground. Must be soldered to PCB.", 6 SW (power) "The SW pin is the output of an internal power switch. Connect this pin to the inductor", 7 BOOST "This pin is used to provide a drive voltage, higher than the input voltage, to the internal bipolar NPN power switch.", 8 BD (power) "This pin connects to the anode of the boost diode. This pin also supplies current to the LT3970’s internal regulator when BD is above 3.2V.", 9 PG (oc) "The PG pin is the open-drain output of an internal comparator. PG remains low until the FB pin is within 10% of the final regulation voltage. PG is valid when VIN is above 4.2V and EN is high.", 10 RT "A resistor is tied between RT and ground to set the switching frequency."

## LT3970IMS-3.3#PBF
designator U?
350 mA Step-Down Regulator with 2.5 uA Quiescent Current and Integrated Diodes, 10-pin SOP (MS-10), -40 to 125 degC, Pb-Free; Manufacturer: Linear Technology; PartNumber: LT3970IMS-3.3#PBF; Frequency Adjust Range: 200kHz - 2.2MHz; Number of Outputs: 1; DatasheetVersion: Rev. B; PackageVersion: Rev. E, 06/2010; PackageReference: MS-10; PackageDescription: 10-Pin Plastic MSOP, Body 3 x 3 mm, Pitch 0.5 mm; Supplier 1: Digi-Key; Supplier Part Number 1: LT3970IMS-3.3#PBF-ND; Supplier 2: Newark; Supplier Part Number 2: 13T8575; RoHS: TRUE; Mounting Technology: Surface Mount; ComponentLink1Description: Manufacturer URL; ComponentLink1URL: http://www.linear.com/; ComponentLink2Description: Datasheet; ComponentLink2URL: http://cds.linear.com/docs/en/datasheet/3970fb.pdf; ComponentLink3Description: Package Specification; ComponentLink3URL: http://cds.linear.com/docs/en/packaging/05081661_F_MS.pdf
footprint LT-MS-10_N (SOP, 10-Leads, Body 3.1x3.1mm, Pitch 0.5mm, IPC Medium Density)
footprint LT-MS-10_L (SOP, 10-Leads, Body 3.1x3.1mm, Pitch 0.5mm, IPC High Density)
footprint LT-MS-10_M (SOP, 10-Leads, Body 3.1x3.1mm, Pitch 0.5mm, IPC Low Density)
pins: 1 VOUT (in) "The LT3970-3.3, LT3970-3.42 and LT3970-5 regulate the VOUT Pin to 3.3V, 3.42V and 5V respectively. This pin connects to the internal feedback divider that programs the fixed output voltage.", 2 EN (in) "The part is in shutdown when this pin is low and active when this pin is high. The hysteretic threshold voltage is 1V going up and 0.97V going down. Tie to VIN if shutdown feature is not used. The EN threshold is accurate (See Datasheet)", 3 VIN (power) "The VIN pin supplies current to the LT3970’s internal circuitry and to the internal power switch. This pin must be locally bypassed.", 4 GND (power) "Ground. Must be soldered to PCB.", 5 GND (power) "Ground. Must be soldered to PCB.", 6 SW (power) "The SW pin is the output of an internal power switch. Connect this pin to the inductor.", 7 BOOST "This pin is used to provide a drive voltage, higher than the input voltage, to the internal bipolar NPN power switch.", 8 BD (power) "This pin connects to the anode of the boost diode. This pin also supplies current to the LT3970’s internal regulator when BD is above 3.2V.", 9 PG (oc) "The PG pin is the open-drain output of an internal comparator. PG remains low until the FB pin is within 10% of the final regulation voltage. PG is valid when VIN is above 4.2V and EN is high.", 10 RT "A resistor is tied between RT and ground to set the switching frequency."

## LT3970IMS-3.3#TRPBF
designator U?
350 mA Step-Down Regulator with 2.5 uA Quiescent Current and Integrated Diodes, 10-pin SOP (MS-10), -40 to 125 degC, Pb-Free, Tape and Reel; Manufacturer: Linear Technology; PartNumber: LT3970IMS-3.3#TRPBF; Frequency Adjust Range: 200kHz - 2.2MHz; Number of Outputs: 1; DatasheetVersion: Rev. B; PackageVersion: Rev. E, 06/2010; PackageReference: MS-10; PackageDescription: 10-Pin Plastic MSOP, Body 3 x 3 mm, Pitch 0.5 mm; Supplier 1: Digi-Key; Supplier Part Number 1: LT3970IMS-3.3#TRPBF-ND; Packing: Tape and Reel; RoHS: TRUE; Mounting Technology: Surface Mount; ComponentLink1Description: Manufacturer URL; ComponentLink1URL: http://www.linear.com/; ComponentLink2Description: Datasheet; ComponentLink2URL: http://cds.linear.com/docs/en/datasheet/3970fb.pdf; ComponentLink3Description: Package Specification; ComponentLink3URL: http://cds.linear.com/docs/en/packaging/05081661_F_MS.pdf
footprint LT-MS-10_N (SOP, 10-Leads, Body 3.1x3.1mm, Pitch 0.5mm, IPC Medium Density)
footprint LT-MS-10_L (SOP, 10-Leads, Body 3.1x3.1mm, Pitch 0.5mm, IPC High Density)
footprint LT-MS-10_M (SOP, 10-Leads, Body 3.1x3.1mm, Pitch 0.5mm, IPC Low Density)
pins: 1 VOUT (in) "The LT3970-3.3, LT3970-3.42 and LT3970-5 regulate the VOUT Pin to 3.3V, 3.42V and 5V respectively. This pin connects to the internal feedback divider that programs the fixed output voltage.", 2 EN (in) "The part is in shutdown when this pin is low and active when this pin is high. The hysteretic threshold voltage is 1V going up and 0.97V going down. Tie to VIN if shutdown feature is not used. The EN threshold is accurate (See Datasheet)", 3 VIN (power) "The VIN pin supplies current to the LT3970’s internal circuitry and to the internal power switch. This pin must be locally bypassed.", 4 GND (power) "Ground. Must be soldered to PCB.", 5 GND (power) "Ground. Must be soldered to PCB.", 6 SW (power) "The SW pin is the output of an internal power switch. Connect this pin to the inductor.", 7 BOOST "This pin is used to provide a drive voltage, higher than the input voltage, to the internal bipolar NPN power switch.", 8 BD (power) "This pin connects to the anode of the boost diode. This pin also supplies current to the LT3970’s internal regulator when BD is above 3.2V.", 9 PG (oc) "The PG pin is the open-drain output of an internal comparator. PG remains low until the FB pin is within 10% of the final regulation voltage. PG is valid when VIN is above 4.2V and EN is high.", 10 RT "A resistor is tied between RT and ground to set the switching frequency."

## LT3970IMS-5#PBF
designator U?
350 mA Step-Down Regulator with 2.5 uA Quiescent Current and Integrated Diodes, 10-pin SOP (MS-10), -40 to 125 degC, Pb-Free; Manufacturer: Linear Technology; PartNumber: LT3970IMS-5#PBF; Frequency Adjust Range: 200kHz - 2.2MHz; Number of Outputs: 1; DatasheetVersion: Rev. B; PackageVersion: Rev. E, 06/2010; PackageReference: MS-10; PackageDescription: 10-Pin Plastic MSOP, Body 3 x 3 mm, Pitch 0.5 mm; Supplier 1: Digi-Key; Supplier Part Number 1: LT3970IMS-5#PBF-ND; RoHS: TRUE; Mounting Technology: Surface Mount; ComponentLink1Description: Manufacturer URL; ComponentLink1URL: http://www.linear.com/; ComponentLink2Description: Datasheet; ComponentLink2URL: http://cds.linear.com/docs/en/datasheet/3970fb.pdf; ComponentLink3Description: Package Specification; ComponentLink3URL: http://cds.linear.com/docs/en/packaging/05081661_F_MS.pdf
footprint LT-MS-10_N (SOP, 10-Leads, Body 3.1x3.1mm, Pitch 0.5mm, IPC Medium Density)
footprint LT-MS-10_L (SOP, 10-Leads, Body 3.1x3.1mm, Pitch 0.5mm, IPC High Density)
footprint LT-MS-10_M (SOP, 10-Leads, Body 3.1x3.1mm, Pitch 0.5mm, IPC Low Density)
pins: 1 VOUT (in) "The LT3970-3.3, LT3970-3.42 and LT3970-5 regulate the VOUT Pin to 3.3V, 3.42V and 5V respectively. This pin connects to the internal feedback divider that programs the fixed output voltage.", 2 EN (in) "The part is in shutdown when this pin is low and active when this pin is high. The hysteretic threshold voltage is 1V going up and 0.97V going down. Tie to VIN if shutdown feature is not used. The EN threshold is accurate (See Datasheet)", 3 VIN (power) "The VIN pin supplies current to the LT3970’s internal circuitry and to the internal power switch. This pin must be locally bypassed.", 4 GND (power) "Ground. Must be soldered to PCB.", 5 GND (power) "Ground. Must be soldered to PCB.", 6 SW (power) "The SW pin is the output of an internal power switch. Connect this pin to the inductor.", 7 BOOST "This pin is used to provide a drive voltage, higher than the input voltage, to the internal bipolar NPN power switch.", 8 BD (power) "This pin connects to the anode of the boost diode. This pin also supplies current to the LT3970’s internal regulator when BD is above 3.2V.", 9 PG (oc) "The PG pin is the open-drain output of an internal comparator. PG remains low until the FB pin is within 10% of the final regulation voltage. PG is valid when VIN is above 4.2V and EN is high.", 10 RT "A resistor is tied between RT and ground to set the switching frequency."

## LT3970IMS-5#TRPBF
designator U?
350 mA Step-Down Regulator with 2.5 uA Quiescent Current and Integrated Diodes, 10-pin SOP (MS-10), -40 to 125 degC, Pb-Free, Tape and Reel; Manufacturer: Linear Technology; PartNumber: LT3970IMS-5#TRPBF; Frequency Adjust Range: 200kHz - 2.2MHz; Number of Outputs: 1; DatasheetVersion: Rev. B; PackageVersion: Rev. E, 06/2010; PackageReference: MS-10; PackageDescription: 10-Pin Plastic MSOP, Body 3 x 3 mm, Pitch 0.5 mm; Supplier 1: Digi-Key; Supplier Part Number 1: LT3970IMS-5#TRPBF-ND; Packing: Tape and Reel; RoHS: TRUE; Mounting Technology: Surface Mount; ComponentLink1Description: Manufacturer URL; ComponentLink1URL: http://www.linear.com/; ComponentLink2Description: Datasheet; ComponentLink2URL: http://cds.linear.com/docs/en/datasheet/3970fb.pdf; ComponentLink3Description: Package Specification; ComponentLink3URL: http://cds.linear.com/docs/en/packaging/05081661_F_MS.pdf
footprint LT-MS-10_N (SOP, 10-Leads, Body 3.1x3.1mm, Pitch 0.5mm, IPC Medium Density)
footprint LT-MS-10_L (SOP, 10-Leads, Body 3.1x3.1mm, Pitch 0.5mm, IPC High Density)
footprint LT-MS-10_M (SOP, 10-Leads, Body 3.1x3.1mm, Pitch 0.5mm, IPC Low Density)
pins: 1 VOUT (in) "The LT3970-3.3, LT3970-3.42 and LT3970-5 regulate the VOUT Pin to 3.3V, 3.42V and 5V respectively. This pin connects to the internal feedback divider that programs the fixed output voltage.", 2 EN (in) "The part is in shutdown when this pin is low and active when this pin is high. The hysteretic threshold voltage is 1V going up and 0.97V going down. Tie to VIN if shutdown feature is not used. The EN threshold is accurate (See Datasheet)", 3 VIN (power) "The VIN pin supplies current to the LT3970’s internal circuitry and to the internal power switch. This pin must be locally bypassed.", 4 GND (power) "Ground. Must be soldered to PCB.", 5 GND (power) "Ground. Must be soldered to PCB.", 6 SW (power) "The SW pin is the output of an internal power switch. Connect this pin to the inductor.", 7 BOOST "This pin is used to provide a drive voltage, higher than the input voltage, to the internal bipolar NPN power switch.", 8 BD (power) "This pin connects to the anode of the boost diode. This pin also supplies current to the LT3970’s internal regulator when BD is above 3.2V.", 9 PG (oc) "The PG pin is the open-drain output of an internal comparator. PG remains low until the FB pin is within 10% of the final regulation voltage. PG is valid when VIN is above 4.2V and EN is high.", 10 RT "A resistor is tied between RT and ground to set the switching frequency."

## LT3971AIMSE#PBF
designator U?
1.3 A, 2 MHz Step-Down Regulator with 2.2 uA Quiescent Current, 10-pin SOP (MSE-10-EDP), -40 to 125 degC, Pb-Free; Manufacturer: Linear Technology; PartNumber: LT3971AIMSE#PBF; Frequency Adjust Range: 200kHz - 2MHz; Number of Outputs: 1; PackageVersion: Rev. I, 05/2013; PackageReference: MSE-10; PackageDescription: 10-Pin Plastic MSOP, Exposed Die Pad, Body 3 x 3 mm, Pitch 0.5 mm; Supplier 1: Digi-Key; Supplier Part Number 1: LT3971AIMSE#PBF-ND; Supplier 2: Farnell; Supplier Part Number 2: 2097879; Supplier 3: Newark; Supplier Part Number 3: 87T9243; RoHS: TRUE; Mounting Technology: Surface Mount; ComponentLink1Description: Manufacturer URL; ComponentLink1URL: http://www.linear.com/; ComponentLink2Description: Datasheet; ComponentLink2URL: http://cds.linear.com/docs/en/datasheet/3971af.pdf; ComponentLink3Description: Package Specification; ComponentLink3URL: http://cds.linear.com/docs/en/packaging/05081664_I_MSE.pdf
footprint LT-MSE-10-EDP_N (SOP, 10-Leads, Body 3.1x3.1mm, Pitch 0.5mm, Thermal Pad 1.88x1.68mm, IPC Medium Density)
footprint LT-MSE-10-EDP_L (SOP, 10-Leads, Body 3.1x3.1mm, Pitch 0.5mm, Thermal Pad 1.88x1.68mm, IPC High Density)
footprint LT-MSE-10-EDP_M (SOP, 10-Leads, Body 3.1x3.1mm, Pitch 0.5mm, Thermal Pad 1.88x1.68mm, IPC Low Density)
pins: 1 BD (power) "This pin connects to the anode of the boost diode. The BD pin is normally connected to the output.", 2 BOOST "This pin is used to provide a drive voltage, higher than the input voltage, to the internal bipolar NPN power switch.", 3 SW (power) "The SW pin is the output of an internal power switch. Connect this pin to the inductor, catch diode, and boost capacitor.", 4 VIN (power), 5 EN (in), 6 FB (in), 7 SS (in), 8 RT "A resistor is tied between RT and ground to set the switching frequency.", 9 PG (oc), 10 SYNC (in) "This is the external clock synchronization input. Ground this pin for low ripple Burst Mode operation at low output loads. Tie to a clock source for synchronization, which will include pulse-skipping at low output loads. (See Datasheet)", 11 EP (power) "Ground. The exposed pad must be soldered to PCB."

## LT3971AIMSE#TRPBF
designator U?
1.3 A, 2 MHz Step-Down Regulator with 2.2 uA Quiescent Current, 10-pin SOP (MSE-10-EDP), -40 to 125 degC, Pb-Free, Tape and Reel; Manufacturer: Linear Technology; PartNumber: LT3971AIMSE#TRPBF; Frequency Adjust Range: 200kHz - 2MHz; Number of Outputs: 1; PackageVersion: Rev. I, 05/2013; PackageReference: MSE-10; PackageDescription: 10-Pin Plastic MSOP, Exposed Die Pad, Body 3 x 3 mm, Pitch 0.5 mm; Supplier 1: Digi-Key; Supplier Part Number 1: LT3971AIMSE#TRPBF-ND; Packing: Tape and Reel; RoHS: TRUE; Mounting Technology: Surface Mount; ComponentLink1Description: Manufacturer URL; ComponentLink1URL: http://www.linear.com/; ComponentLink2Description: Datasheet; ComponentLink2URL: http://cds.linear.com/docs/en/datasheet/3971af.pdf; ComponentLink3Description: Package Specification; ComponentLink3URL: http://cds.linear.com/docs/en/packaging/05081664_I_MSE.pdf
footprint LT-MSE-10-EDP_N (SOP, 10-Leads, Body 3.1x3.1mm, Pitch 0.5mm, Thermal Pad 1.88x1.68mm, IPC Medium Density)
footprint LT-MSE-10-EDP_L (SOP, 10-Leads, Body 3.1x3.1mm, Pitch 0.5mm, Thermal Pad 1.88x1.68mm, IPC High Density)
footprint LT-MSE-10-EDP_M (SOP, 10-Leads, Body 3.1x3.1mm, Pitch 0.5mm, Thermal Pad 1.88x1.68mm, IPC Low Density)
pins: 1 BD (power) "This pin connects to the anode of the boost diode. The BD pin is normally connected to the output.", 2 BOOST "This pin is used to provide a drive voltage, higher than the input voltage, to the internal bipolar NPN power switch.", 3 SW (power) "The SW pin is the output of an internal power switch. Connect this pin to the inductor, catch diode, and boost capacitor.", 4 VIN (power), 5 EN (in), 6 FB (in), 7 SS (in), 8 RT "A resistor is tied between RT and ground to set the switching frequency.", 9 PG (oc), 10 SYNC (in) "This is the external clock synchronization input. Ground this pin for low ripple Burst Mode operation at low output loads. Tie to a clock source for synchronization, which will include pulse-skipping at low output loads. (See Datasheet)", 11 EP (power) "Ground. The exposed pad must be soldered to PCB."